# EAGLE library part AVR-7_AVR-ISP-6 (library gest-mod)
AVR ISP-6 Serial Programming Header
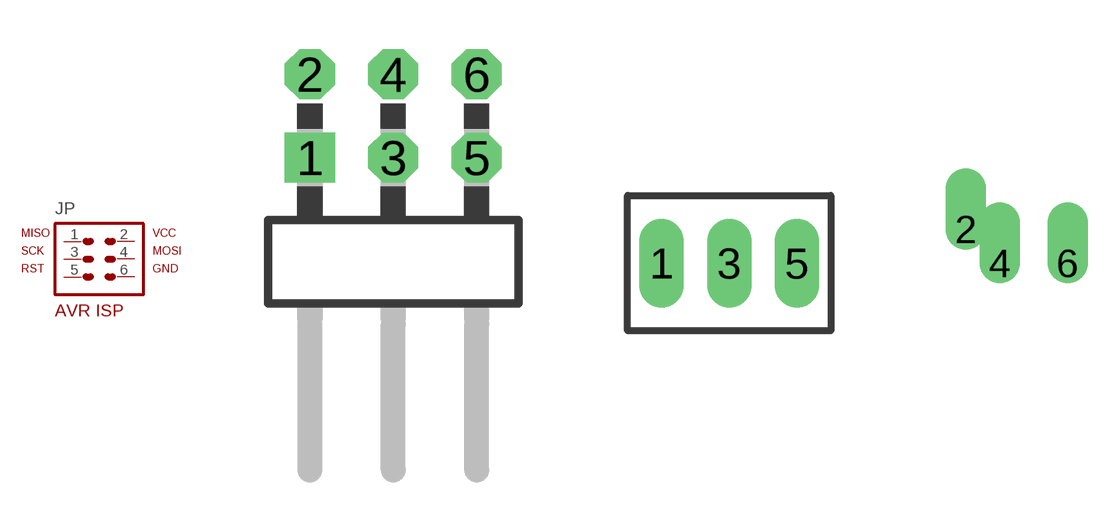
[diagram p2: symbol with the pads of AVR-7_AVR-ISP-6R; footprints AVR-7_AVR-ISP-6R, AVR-7_AVR-ISP-6]

Designator prefix JP

## AVR-7_AVR-ISP-6HORZ  [AVR-7_AVR-ISP-6R]
1  1  pas
2  2  pas
3  3  pas
4  4  pas
5  5  pas
6  6  pas

## AVR-7_AVR-ISP-6VERT  [AVR-7_AVR-ISP-6]
Pads as for AVR-7_AVR-ISP-6R

## AVR-7_AVR-ISP-63-PIN-T-HOLE  [AVR-7_AVR-ISP-6]

## Footprint AVR-7_AVR-ISP-6R (pad centres in mm)
PIN HEADER AVR ISP 6 Pin, 0.1" Right Angle
drill 1.016 square: 1 -2.54,-1.27
drill 1.016 octagon: 2 -2.54,1.27; 3 0,-1.27; 4 0,1.27; 5 2.54,-1.27; 6 2.54,1.27

## Footprint AVR-7_AVR-ISP-6 (pad centres in mm)
PIN HEADER JTAG 6 Pin, 0.1" Straight
drill 1.016 pad 1.676 long: 1 -2.54,0; 3 0,0; 5 2.54,0
drill 1.016 pad 1.27 offset: 2 8.89,1.27; 4 10.16,0; 6 12.7,0